# Altium schematic symbol library ICSP.SchLib: 1 symbol
Pins are listed as number, name and electrical type; pins without a type are passive.

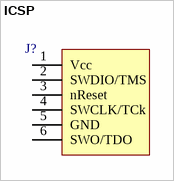
[diagram p0: symbol ICSP]

## ICSP
designator J?  (value not drawn)
pins: 1 Vcc "/MCLR", 2 SWDIO/TMS "Vcc", 3 nReset "GND", 4 SWCLK/TCk "PGD", 5 GND "PGC", 6 SWO/TDO